# Altium schematic symbol library TC1185-5.0.Schlib: 1 symbol
Pins are listed as number, name and electrical type; pins without a type are passive.

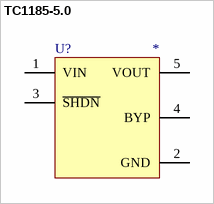
[diagram p0: symbol TC1185-5.0]

## TC1185-5.0
designator U?
pins: 1 VIN, 2 GND, 3 ~{SHDN}, 4 BYP, 5 VOUT